# Altium footprint library 834M1.PcbLib: 1 footprints
Each footprint in its own frame and in the unit in brackets; x right, y up, seen from the top. Pads: shape width x height; smd on the part's side, far side on the other; paste and mask are expansions set on the pad; w line width, h text height; cw(c..) or ccw(c..) is an arc to the next point about the centre after c.
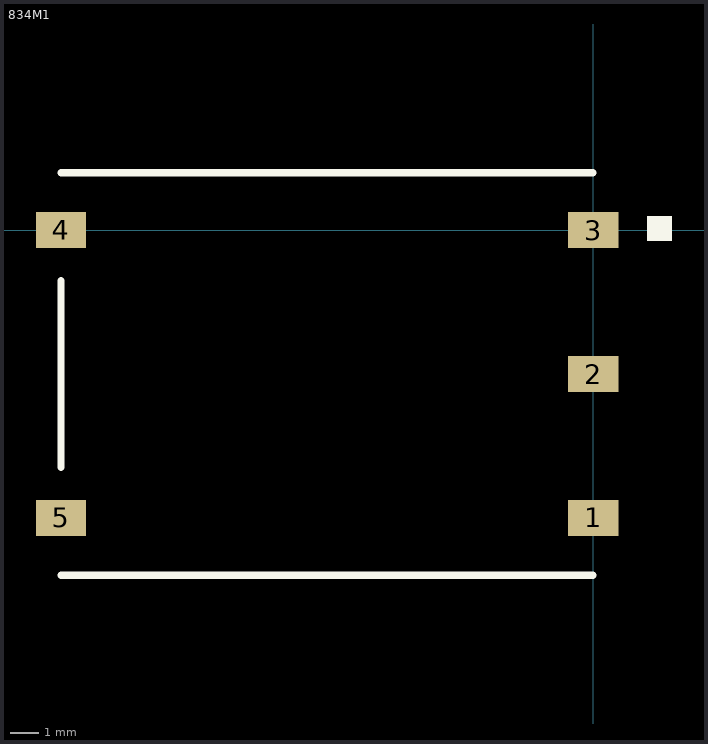
[diagram p0: the footprint, top view; thin cyan lines are the x and y axes]

## 834M1 [mil]
pads (5):
  rect 70x50 smd: 1(0,-400) 2(0,-200) 3(0,0) 4(-740,0) 5(-740,-400)
Top Overlay:
  rectangle: 75,-15 110,20
  lines w10: -740,-480 0,-480 ; -740,-330 -740,-70 ; -740,80 0,80
3D body: height 170, standoff 0, extent -740,-480 0,80